# Altium footprint library SG__PCB_HOLE_Optoelectronics.PcbLib: 6 footprints
Each footprint in its own frame and in the unit in brackets; x right, y up, seen from the top. Pads: shape width x height; smd on the part's side, far side on the other; paste and mask are expansions set on the pad; w line width, h text height; cw(c..) or ccw(c..) is an arc to the next point about the centre after c.
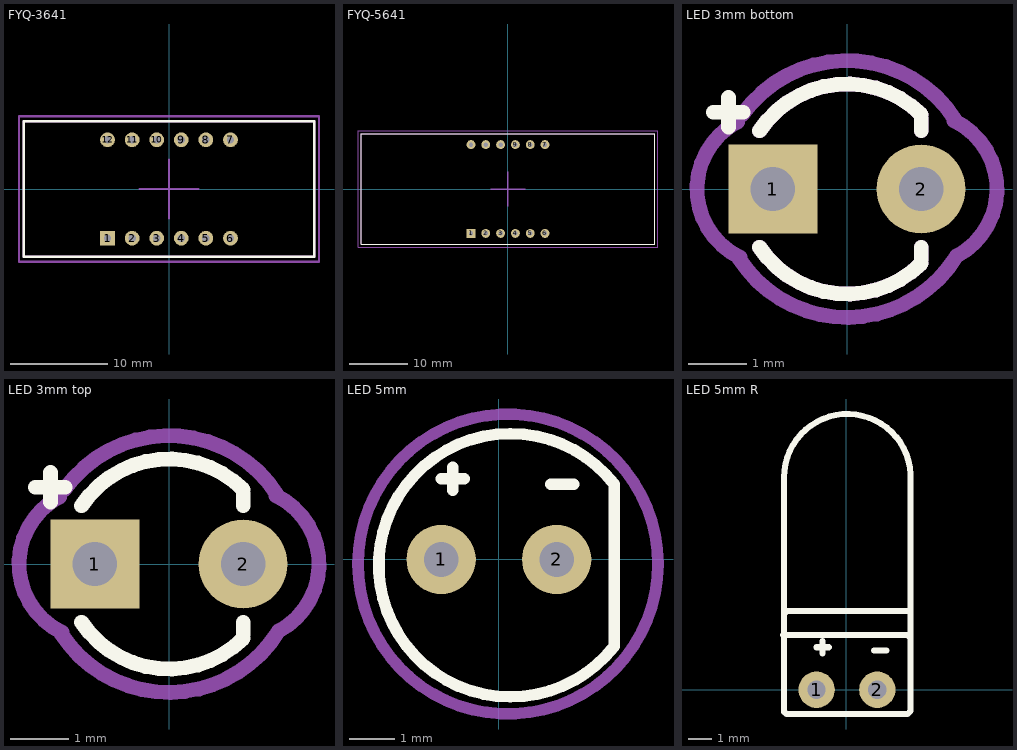
[diagram p0: the footprints below, top view; thin cyan lines are the x and y axes]

## FYQ-3641 [mil] "12pin 4digit 30mm width 7segment indicator"
pads (12):
  rect 60x60 hole 30: 1(-250,-200)
  round 60 hole 30: 2(-150,-200) 3(-50,-200) 4(50,-200) 5(150,-200) 6(250,-200) 7(250,200) 8(150,200) 9(50,200) 10(-50,200) 11(-150,200) 12(-250,200)
Top Overlay:
  lines w10: -590.55,-275.59 590.55,-275.59 590.55,275.59 -590.55,275.59 -590.55,-275.59
Top Assembly:
  lines w10: -590.55,-275.59 -590.55,275.59 590.55,275.59 590.55,-275.59 -590.55,-275.59
Top Courtyard:
  lines w10: -118.11,0 118.11,0 ; 0,-118.11 0,118.11 ; -610.24,-295.28 -610.24,295.28 610.24,295.28 610.24,-295.28 -610.24,-295.28
3D body "User Library-IND 3641 GREEN.step": height 283.86, standoff -263.78, extent -590.55,-275.59 590.55,275.59

## FYQ-5641 [mil] "12pin 4digit 50mm width 7segment indicator"
pads (12):
  rect 60x60 hole 30: 1(-250,-300)
  round 60 hole 30: 2(-150,-300) 3(-50,-300) 4(50,-300) 5(150,-300) 6(250,-300) 7(250,300) 8(150,300) 9(50,300) 10(-50,300) 11(-150,300) 12(-250,300)
Top Overlay:
  lines w7.87: -990.16,-374.02 990.16,-374.02 990.16,374.02 -990.16,374.02 -990.16,-374.02
Top Assembly:
  lines w7.87: -990.16,-374.02 -990.16,374.02 990.16,374.02 990.16,-374.02 -990.16,-374.02
Top Courtyard:
  lines w7.87: -1013.78,-393.7 1013.78,-393.7 1013.78,393.7 -1013.78,393.7 -1013.78,-393.7
  lines w10: -118.11,0 118.11,0 ; 0,-118.11 0,118.11
3D body "User Library-C-564 (7 segment 4 digit LED display).step": height 334.65, standoff -224.41, extent -992.13,-374.02 992.13,374.02

## LED 3mm bottom [mil]
pads (2):
  rect 60x60 hole 30: 1(-50,0)
  round 60 hole 30: 2(50,0)
Top Overlay:
  lines w10: -90,51.77 -70,51.77 ; -80,41.77 -80,61.77 ; -58.96,-39.31 ccw(c0,0) 50.13,-50.09 ; -58.96,39.31 cw(c0,0) 50.13,50.09 ; 50.03,-47.18 50.03,-39.31 ; 50.03,39.31 50.03,47.18
Bottom Assembly:
  lines w10: -58.96,-39.31 ccw(c0,0) 50.13,-50.09 ; -58.96,39.31 cw(c0,0) 50.13,50.09 ; 50.03,-47.18 50.03,-39.31 ; 50.03,39.31 50.03,47.18
Bottom Courtyard:
  lines w10: -73.83,45.3 ccw(c-50,0) -72.03,-46.2 ; -72.86,-46.84 ccw(c0,0) 73.83,-45.3 ccw(c50,0) 72.03,46.2 ; -70.48,50.34 cw(c0,0) 72.55,47.31
Top Designator (Mech9):
  text ".Designator" at -202.29,-13.12 h39.37
3D body "CircuitWorks-LED DIP 3MM.step": height 78.74, standoff -255.91, extent -74.8,-74.8 62.99,74.8

## LED 3mm top [mil]
pads (2):
  rect 60x60 hole 30: 1(-50,0)
  round 60 hole 30: 2(50,0)
Top Overlay:
  lines w10: -90,51.77 -70,51.77 ; -80,41.77 -80,61.77 ; -58.96,-39.31 ccw(c0,0) 50.13,-50.09 ; -58.96,39.31 cw(c0,0) 50.13,50.09 ; 50.03,-47.18 50.03,-39.31 ; 50.03,39.31 50.03,47.18
Top Courtyard:
  lines w10: -73.83,45.3 ccw(c-50,0) -72.03,-46.2 ; -72.86,-46.84 ccw(c0,0) 73.83,-45.3 ccw(c50,0) 72.03,46.2 ; -70.48,50.34 cw(c0,0) 72.55,47.31
Top Designator (Mech9):
  text ".Designator" at -202.29,-13.12 h39.37
3D body "CircuitWorks-LED DIP 3MM.step": height 255.91, standoff -78.74, extent -74.8,-74.8 62.99,74.8

## LED 5mm [mil]
pads (2):
  round 60 hole 30: 1(-50,0) 2(50,0)
Top Overlay:
  lines w10: -50,70 -30,70 ; -40,60 -40,80 ; 45,65 65,65 ; 100,-75 cw(c10,-5) 100,65 100,-75
Top Courtyard:
  circle w10: c7.87,-3.94 r129.92
Top Designator (Mech9):
  text ".Designator" at -196.3,-8.12 h39.37
3D body "LED1.stp": height 393.7, standoff -39.37, extent -106.95,-123.01 110,113.13

## LED 5mm R [mil]
pads (2):
  round 60 hole 30: 1(-49.21,0) 2(50.79,0)
Top Overlay:
  lines w10: -102.9,125 -97.9,130 105.79,130 ; -49.21,70 -29.21,70 ; -39.21,60 -39.21,80 ; 45.79,65 65.79,65 ; -102.9,91.31 -102.9,-36.31 -99.21,-40 100.79,-40 105.79,-35 105.79,85 ; -102.9,91.31 -102.9,350.03 cw(c1.5,350.03) 105.79,355 105.79,85 ; -102.9,91.31 -104.21,90 100.79,90 105.79,85
Top Designator (Mech9):
  text ".Designator" at -196,205.1 h39.37
3D body "LED2.stp": height 224.36, standoff -51.64, extent -106.55,-16.22 110.79,456.22